# Altium footprint library Flex_SOD-323-AC.PcbLib: 1 footprints
Each footprint in its own frame and in the unit in brackets; x right, y up, seen from the top. Pads: shape width x height; smd on the part's side, far side on the other; paste and mask are expansions set on the pad; w line width, h text height; cw(c..) or ccw(c..) is an arc to the next point about the centre after c.
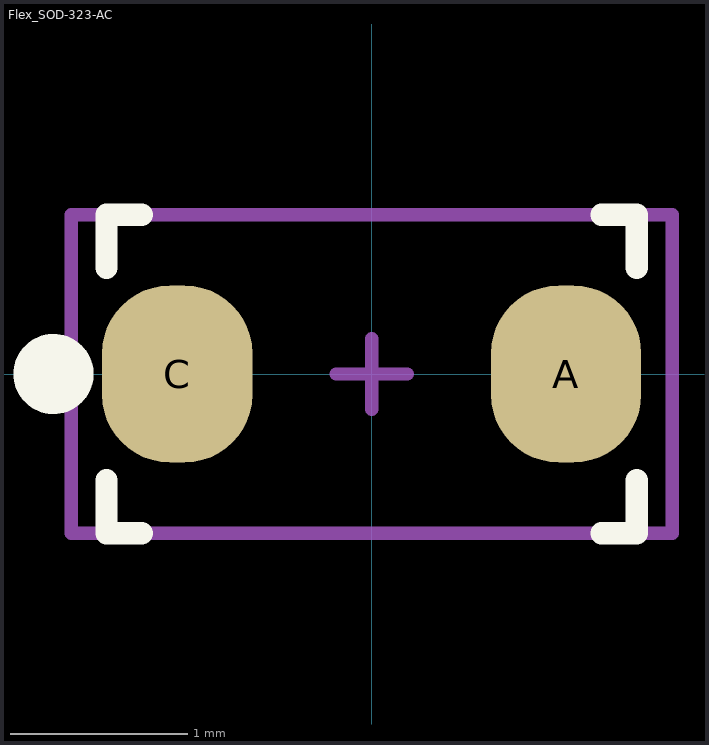
[diagram p0: the footprint, top view; thin cyan lines are the x and y axes]

## Flex_SOD-323-AC [mm]
pads (2):
  rrect90% 0.85x1 smd paste-0.13 mask-0.1: A(1.1,0) C(-1.1,0)
Top Overlay:
  circle w0.254: c-1.8,0 r0.1
  lines w0.127: -1.5,-0.6 -1.5,-0.9 -1.3,-0.9 ; -1.5,0.6 -1.5,0.9 -1.3,0.9 ; 1.3,-0.9 1.5,-0.9 1.5,-0.6 ; 1.3,0.9 1.5,0.9 1.5,0.6
Mechanical 15:
  lines w0.076: -0.2,0 0.2,0 ; 0,-0.2 0,0.2 ; -1.7,-0.9 -1.7,0.9 1.7,0.9 1.7,-0.2 1.7,-0.9 -1.4,-0.9 -1.7,-0.9
3D body "SOD-323.stp": height 1.1, standoff 0, extent -1.3,-0.675 1.3,0.675